# Altium schematic symbol library J 继电器.SchLib: 25 symbols
Pins are listed as number, name and electrical type; pins without a type are passive.

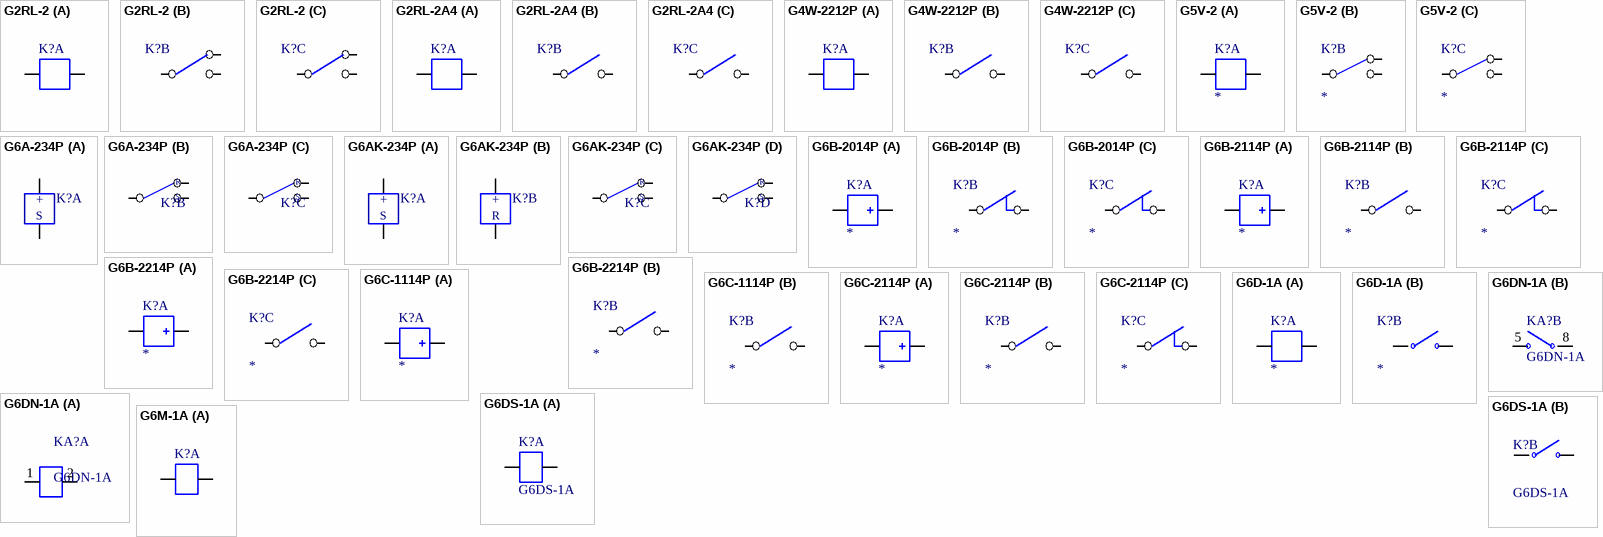
[diagram p0: symbols G2RL-2 to G6M-1A]

## G2RL-2
designator K?
继电器
part A pins: 1 - (power), 8 + (power)
part B pins: 2 NC1, 3 C1, 4 NO1
part C pins: 5 NO2, 6 C2, 7 NC2
2 alternate drawings of the same symbol

## G2RL-2A4
designator K?
继电器
part A pins: 1 - (power), 8 + (power)
part B pins: 3 C1, 4 NO1
part C pins: 5 NO2, 6 C2
2 alternate drawings of the same symbol

## G4W-2212P
designator K?
继电器
part A pins: 5 (power), 6 (power)
part B pins: 1, 3
part C pins: 2, 4

## G5V-2
designator K?
继电器
part A pins: 1, 16
part B pins: 4, 6, 8
part C pins: 9, 11, 13

## G6A-234P
designator K?
继电器
part A pins: 1 +, 16
part B pins: 4, 6, 8
part C pins: 9, 11, 13
part A text: S
part B text: R; S
part C text: R; S

## G6AK-234P
designator K?
继电器
part A pins: 1 +, 16
part B pins: 2, 15
part C pins: 4, 6, 8
part D pins: 9, 11, 13
part A text: S
part B text: R
part C text: R; S
part D text: R; S

## G6B-2014P
designator K?
继电器
part A pins: 1 - (power), 8 + (power)
part B pins: 3 C1, 4 NC1
part C pins: 5 NC2, 6 C2
2 alternate drawings of the same symbol

## G6B-2114P
designator K?
继电器
part A pins: 1 - (power), 8 + (power)
part B pins: 3 C1, 4 NO1
part C pins: 5 NC1, 6 C2
2 alternate drawings of the same symbol

## G6B-2214P
designator K?
继电器
part A pins: 1 - (power), 8 + (power)
part B pins: 3 C1, 4 NO1
part C pins: 5 NO2, 6 C2
2 alternate drawings of the same symbol

## G6C-1114P
designator K?
继电器
part A pins: 1 - (power), 8 + (power)
part B pins: 3 C1, 4 NO1
2 alternate drawings of the same symbol

## G6C-2114P
designator K?
继电器
part A pins: 1 - (power), 8 + (power)
part B pins: 3 C1, 4 NO1
part C pins: 5 NC1, 6 C2
2 alternate drawings of the same symbol

## G6D-1A
designator K?
继电器
part A pins: 1, 13
part B pins: 5, 7

## G6DN-1A
designator KA?
继电器
footprint G6DN-1A
part A pins: 1, 2
part B pins: 5, 8

## G6DS-1A
designator K?
继电器
part A pins: 1, 2
part B pins: 3, 4

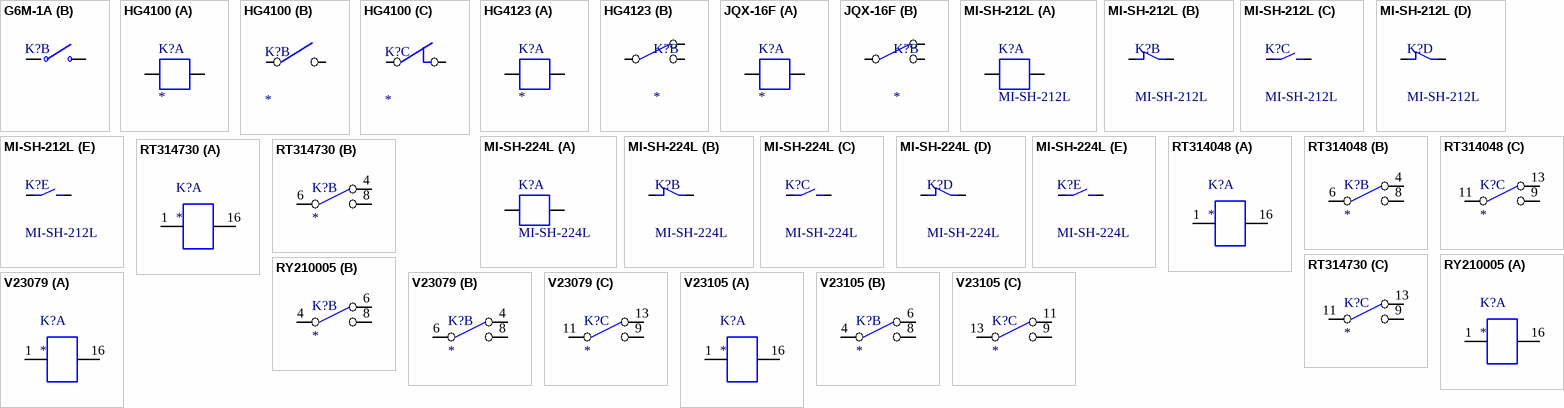
[diagram p1: symbols G6M-1A to V23105]

## G6M-1A
designator K?
继电器
part A pins: 1 -, 2 +
part B pins: 3, 4

## HG4100
designator K?
继电器
part A pins: 3, 4
part B pins: 1, 2
part C pins: 5, 6

## HG4123
designator K?
继电器
part A pins: 1 (power), 2 (power)
part B pins: 3, 4, 5

## JQX-16F
designator K?
继电器
part A pins: 2 (power), 4 (power)
part B pins: 1, 3, 5

## MI-SH-212L
designator K?
继电器
part A pins: 1 (power), 2 (power)
part B pins: 4, 6
part C pins: 6, 8
part D pins: 3, 5
part E pins: 5, 7

## MI-SH-224L
designator K?
继电器
part A pins: 1 (power), 2 (power)
part B pins: 4, 6
part C pins: 6, 8
part D pins: 3, 5
part E pins: 5, 7

## RT314048
designator K?
继电器
part A pins: 1, 16
part B pins: 4, 6, 8
part C pins: 9, 11, 13

## RT314730
designator K?
继电器
part A pins: 1, 16
part B pins: 4, 6, 8
part C pins: 9, 11, 13

## RY210005
designator K?
继电器
part A pins: 1, 16
part B pins: 4, 6, 8

## V23079
designator K?
继电器
part A pins: 1, 16
part B pins: 4, 6, 8
part C pins: 9, 11, 13

## V23105
designator K?
继电器
part A pins: 1, 16
part B pins: 4, 6, 8
part C pins: 9, 11, 13